# Altium footprint library DIP794W56P254L2286H533Q18N.PcbLib: 1 footprints
Each footprint in its own frame and in the unit in brackets; x right, y up, seen from the top. Pads: shape width x height; smd on the part's side, far side on the other; paste and mask are expansions set on the pad; w line width, h text height; cw(c..) or ccw(c..) is an arc to the next point about the centre after c.
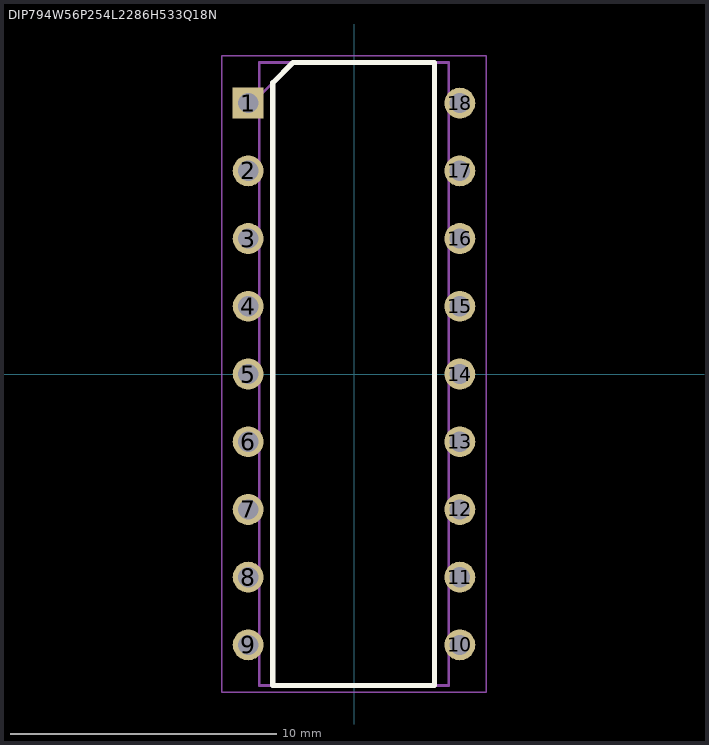
[diagram p0: the footprint, top view; thin cyan lines are the x and y axes]

## DIP794W56P254L2286H533Q18N [mil]
pads (18):
  rect 45.63x45.63 hole 29.88: 1(-156.26,400)
  round 45.63 hole 29.88: 2(-156.26,300) 3(-156.26,200) 4(-156.26,100) 5(-156.26,0) 6(-156.26,-100) 7(-156.26,-200) 8(-156.26,-300) 9(-156.26,-400) 10(156.26,-400) 11(156.26,-300) 12(156.26,-200) 13(156.26,-100) 14(156.26,0) 15(156.26,100) 16(156.26,200) 17(156.26,300) 18(156.26,400)
Top Overlay:
  lines w7.87: -120,-460 118.85,-460 118.85,460 -90,460 -120,430 -120,-460
Mechanical 15:
  lines w3.94: -140,410 -90,460 ; -140,-460 -140,460 140,460 140,-460 -140,-460
Mechanical 20:
  lines w1.97: -195.16,-469.84 -195.16,469.84 195.16,469.84 195.16,-469.84 -195.16,-469.84
3D body "PIC16F716-E_P.stp": height 210, standoff -137.8, extent -161.75,-450 161.75,450